# Altium integrated library Integrated_Library1.IntLib: 48 symbols
Pins are listed as number, name and electrical type; pins without a type are passive.

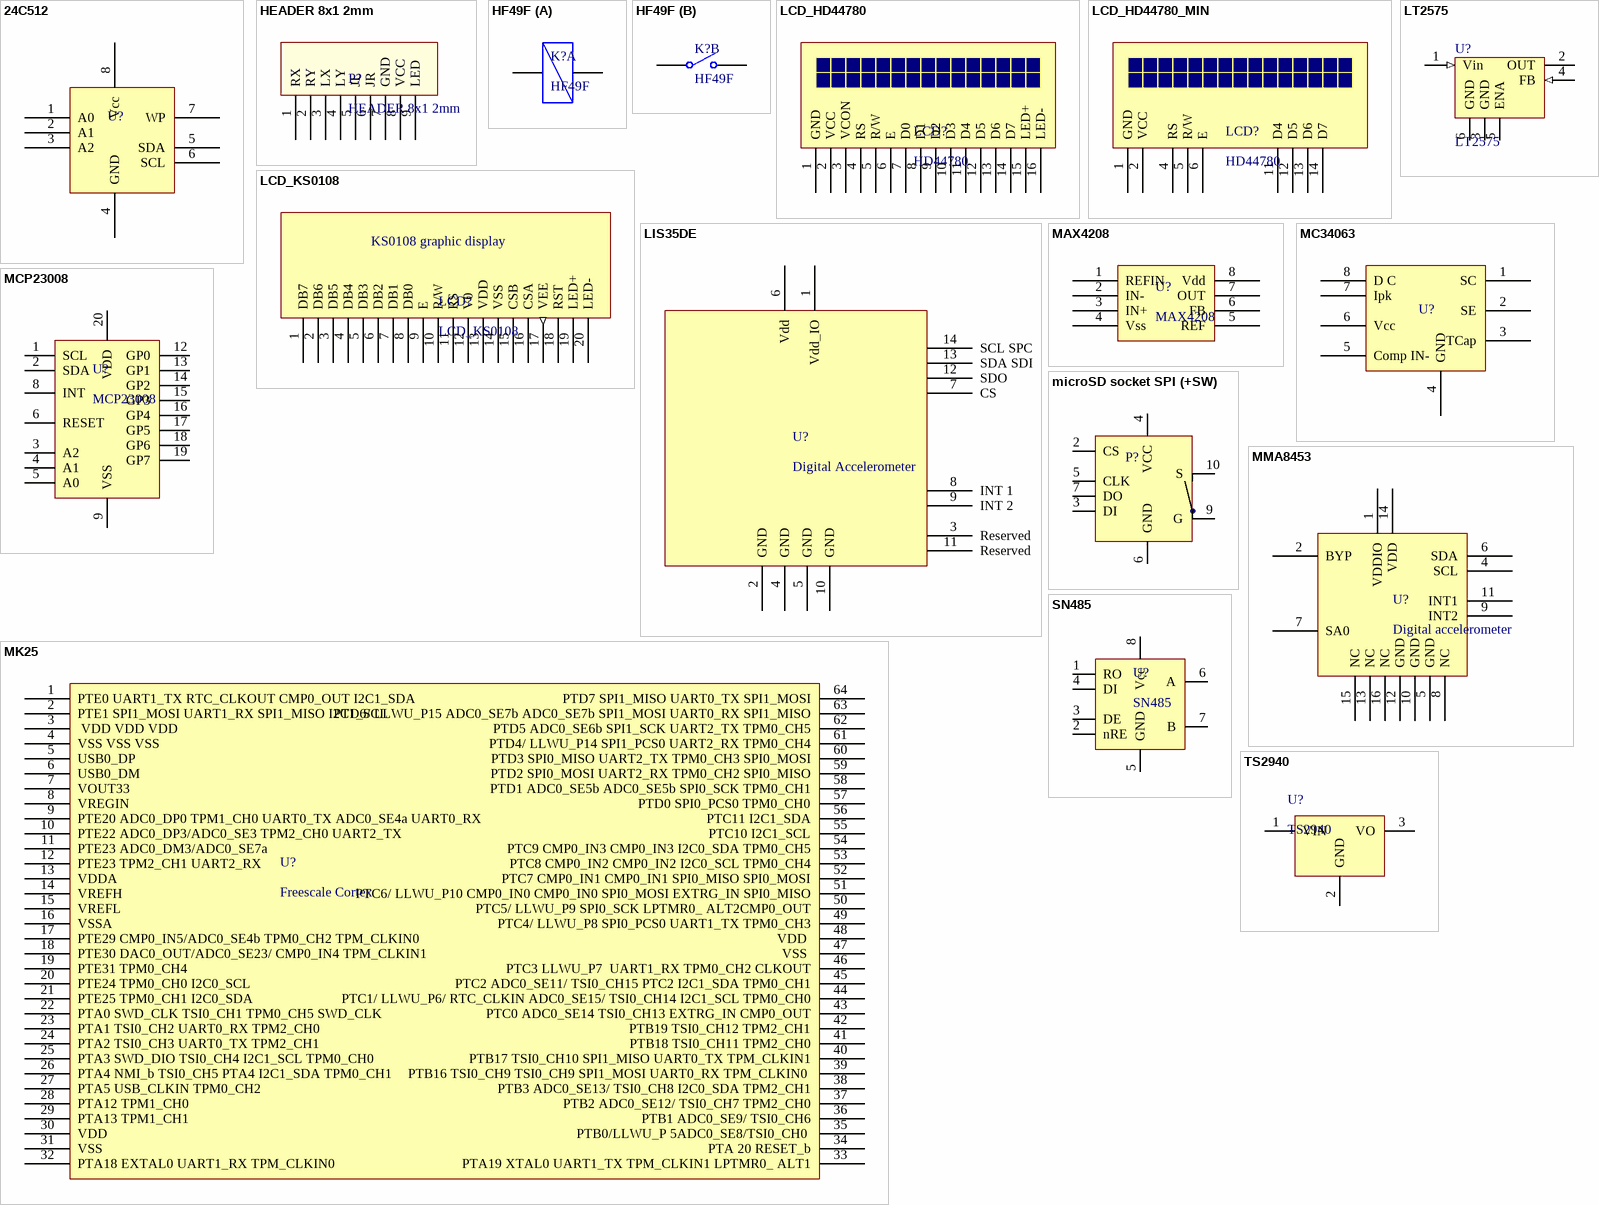
[diagram p0: symbols 24C512 to TS2940]

## 24C512
designator U?
512kb I2C EEPROM
footprint SOIC-8
pins: 1 A0, 2 A1, 3 A2, 4 GND, 5 SDA, 6 SCL, 7 WP, 8 Vcc

## HEADER 8x1 2mm
designator P?
footprint PS2_JOY_PCB
pins: 1 RX, 2 RY, 3 LX, 4 LY, 5 JL, 6 JR, 7 GND, 8 VCC, 9 LED

## HF49F
designator K?
footprint HF49F (MINIATURE 5A/250VAC RElaY)
part A pins: 3, 4
part B pins: 1, 2

## LCD_HD44780
designator LCD?, comment HD44780
footprint LCD_4X20
footprint LCD_2x16
pins: 1 GND, 2 VCC, 3 VCON, 4 RS, 5 R/W, 6 E, 7 D0, 8 D1, 9 D2, 10 D3, 11 D4, 12 D5, 13 D6, 14 D7, 15 LED+, 16 LED-

## LCD_HD44780_MIN
designator LCD?, comment HD44780
footprint LCD_2x8
pins: 1 GND, 2 VCC, 4 RS, 5 R/W, 6 E, 11 D4, 12 D5, 13 D6, 14 D7

## LCD_KS0108
designator LCD?
footprint LCD_GRAPH_192x64
pins: 1 DB7, 2 DB6, 3 DB5, 4 DB4, 5 DB3, 6 DB2, 7 DB1, 8 DB0, 9 E, 10 R/W, 11 RS, 12 V0, 13 VDD, 14 VSS, 15 CSB, 16 CSA, 17 VEE (out), 18 RST, 19 LED+, 20 LED-
text: KS0108 graphic display

## LIS35DE
designator U?, comment Digital Accelerometer
footprint LGA14
pins: 1 Vdd_IO, 2 GND, 3 Reserved, 4 GND, 5 GND, 6 Vdd, 7 CS, 8 INT 1, 9 INT 2, 10 GND, 11 Reserved, 12 SDO, 13 SDA SDI, 14 SCL SPC

## LT2575
designator U?
3-A High-Efficiency Switching Regulator; Note: Case is Pin 5, is GND.; Published: 15-Apr-2002; DatasheetVersion: Oct-1988; PackageVersion: 1989; PackageReference: KJ004; Publisher: Altium Limited; PackageDescription: Oval Flange Mount; 4 Leads; Pin Circle Dia. 11.94 mm; Lead Dia. 1.09 mm (max); ComponentLink1Description: Manufacturer Link; ComponentLink1URL: http://www.ti.com/
footprint TO-263; pin to pad 3>3+6
pins: 1 Vin (in), 2 OUT, 3 GND, 4 FB (in), 5 ENA, 6 GND

## MAX4208
designator U?
Instrumentional amp
footprint TSOP65P490-8AL (TSOP, 8-Leads, Body 3x3mm, Pitch 0.65mm, IPC High Density)
pins: 1 REFIN, 2 IN-, 3 IN+, 4 Vss, 5 REF, 6 FB, 7 OUT, 8 Vdd

## MC34063
designator U?
footprint SOIC-8
pins: 1 SC, 2 SE, 3 TCap, 4 GND, 5 Comp IN-, 6 Vcc, 7 Ipk, 8 D C

## MCP23008
designator U?
Port expander
footprint SSOP-20
pins: 1 SCL, 2 SDA, 3 A2, 4 A1, 5 A0, 6 RESET, 8 INT, 9 VSS, 12 GP0, 13 GP1, 14 GP2, 15 GP3, 16 GP4, 17 GP5, 18 GP6, 19 GP7, 20 VDD

## microSD socket SPI (+SW)
designator P?, comment SD CARD  (value not drawn)
footprint microSD (ATTEND  112A-TAAR-R02)
pins: 2 CS, 3 DI, 4 VCC, 5 CLK, 6 GND, 7 DO, 9 G, 10 S

## MK25
designator U?, comment Freescale Cortex
pins: 1 PTE0 UART1_TX RTC_CLKOUT CMP0_OUT I2C1_SDA, 2 PTE1 SPI1_MOSI UART1_RX SPI1_MISO I2C1_SCL, 3  VDD VDD VDD, 4 VSS VSS VSS, 5 USB0_DP, 6 USB0_DM, 7 VOUT33 , 8 VREGIN , 9 PTE20 ADC0_DP0 TPM1_CH0 UART0_TX ADC0_SE4a UART0_RX, 10 PTE22 ADC0_DP3/ADC0_SE3 TPM2_CH0 UART2_TX, 11 PTE23 ADC0_DM3/ADC0_SE7a, 12 PTE23 TPM2_CH1 UART2_RX, 13 VDDA , 14 VREFH , 15 VREFL , 16 VSSA , 17 PTE29 CMP0_IN5/ADC0_SE4b TPM0_CH2 TPM_CLKIN0, 18 PTE30 DAC0_OUT/ADC0_SE23/ CMP0_IN4 TPM_CLKIN1, 19 PTE31 TPM0_CH4, 20 PTE24 TPM0_CH0 I2C0_SCL, 21 PTE25 TPM0_CH1 I2C0_SDA, 22 PTA0 SWD_CLK TSI0_CH1 TPM0_CH5 SWD_CLK, 23 PTA1 TSI0_CH2 UART0_RX TPM2_CH0, 24 PTA2 TSI0_CH3 UART0_TX TPM2_CH1, 25 PTA3 SWD_DIO TSI0_CH4 I2C1_SCL TPM0_CH0, 26 PTA4 NMI_b TSI0_CH5 PTA4 I2C1_SDA TPM0_CH1, 27 PTA5 USB_CLKIN TPM0_CH2, 28 PTA12 TPM1_CH0, 29 PTA13 TPM1_CH1, 30 VDD, 31 VSS, 32 PTA18 EXTAL0 UART1_RX TPM_CLKIN0, 33 PTA19 XTAL0 UART1_TX TPM_CLKIN1 LPTMR0_ ALT1, 34 PTA 20 RESET_b, 35 PTB0/LLWU_P 5ADC0_SE8/TSI0_CH0 , 36 PTB1 ADC0_SE9/ TSI0_CH6, 37 PTB2 ADC0_SE12/ TSI0_CH7 TPM2_CH0, 38 PTB3 ADC0_SE13/ TSI0_CH8 I2C0_SDA TPM2_CH1, 39 PTB16 TSI0_CH9 TSI0_CH9 SPI1_MOSI UART0_RX TPM_CLKIN0 , 40 PTB17 TSI0_CH10 SPI1_MISO UART0_TX TPM_CLKIN1, 41 PTB18 TSI0_CH11 TPM2_CH0, 42 PTB19 TSI0_CH12 TPM2_CH1, 43 PTC0 ADC0_SE14 TSI0_CH13 EXTRG_IN CMP0_OUT, 44 PTC1/ LLWU_P6/ RTC_CLKIN ADC0_SE15/ TSI0_CH14 I2C1_SCL TPM0_CH0, 45 PTC2 ADC0_SE11/ TSI0_CH15 PTC2 I2C1_SDA TPM0_CH1, 46 PTC3 LLWU_P7  UART1_RX TPM0_CH2 CLKOUT, 47 VSS , 48 VDD , 49 PTC4/ LLWU_P8 SPI0_PCS0 UART1_TX TPM0_CH3, 50 PTC5/ LLWU_P9 SPI0_SCK LPTMR0_ ALT2CMP0_OUT, 51 PTC6/ LLWU_P10 CMP0_IN0 CMP0_IN0 SPI0_MOSI EXTRG_IN SPI0_MISO, 52 PTC7 CMP0_IN1 CMP0_IN1 SPI0_MISO SPI0_MOSI, 53 PTC8 CMP0_IN2 CMP0_IN2 I2C0_SCL TPM0_CH4, 54 PTC9 CMP0_IN3 CMP0_IN3 I2C0_SDA TPM0_CH5, 55 PTC10 I2C1_SCL, 56 PTC11 I2C1_SDA, 57 PTD0 SPI0_PCS0 TPM0_CH0, 58 PTD1 ADC0_SE5b ADC0_SE5b SPI0_SCK TPM0_CH1, 59 PTD2 SPI0_MOSI UART2_RX TPM0_CH2 SPI0_MISO, 60 PTD3 SPI0_MISO UART2_TX TPM0_CH3 SPI0_MOSI, 61 PTD4/ LLWU_P14 SPI1_PCS0 UART2_RX TPM0_CH4, 62 PTD5 ADC0_SE6b SPI1_SCK UART2_TX TPM0_CH5, 63 PTD6/ LLWU_P15 ADC0_SE7b ADC0_SE7b SPI1_MOSI UART0_RX SPI1_MISO, 64 PTD7 SPI1_MISO UART0_TX SPI1_MOSI

## MMA8453
designator U?, comment Digital accelerometer
pins: 1 VDDIO, 2 BYP, 4 SCL, 5 GND, 6 SDA, 7 SA0, 8 NC, 9 INT2, 10 GND, 11 INT1, 12 GND, 13 NC, 14 VDD, 15 NC, 16 NC

## SN485
designator U?
footprint SOIC-8
pins: 1 RO, 2 nRE, 3 DE, 4 DI, 5 GND, 6 A, 7 B, 8 Vcc

## TS2940
designator U?
Line voltage regulator; Published: 29-Jan-2009; DatasheetVersion: revB, Feb-2008; PackageVersion: revAW, Oct-2008; PackageReference: SOT-23A-CB3; Publisher: Altium Limited; PackageDescription: 3-Lead Plastic Small Outline Transistor (CB) [SOT-23A]; ComponentLink1Description: Manufacturer Link; ComponentLink1URL: http://www.microchip.com; ComponentLink2Description: Datasheet; ComponentLink2URL: http://ww1.microchip.com/downloads/en/DeviceDoc/22049b.pdf; ComponentLink3Description: Packaging Specification; ComponentLink3URL: http://ww1.microchip.com/downloads/en/PackagingSpec/00049AW.pdf
footprint DDPAK-EB3_L (D2-PAK, 4-Leads, Body 9x10.2mm, Pitch 2.54mm, Lead Span 14.9mm, IPC High Density)
footprint TO-252
pins: 1 VIN (power), 2 GND (power), 3 VO (power)


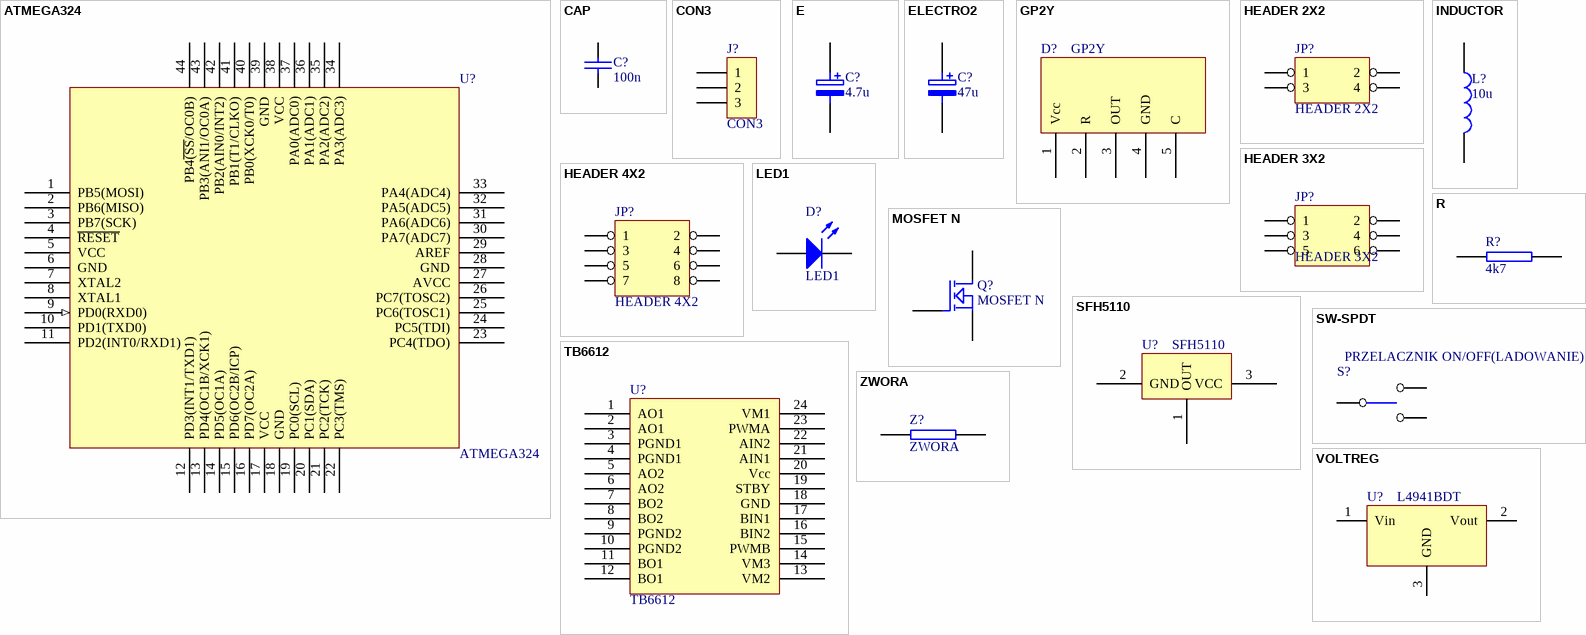
[diagram p1: symbols ATMEGA324 to ZWORA]

## ATMEGA324
designator U?
footprint TQFP44
pins: 1 PB5(MOSI), 2 PB6(MISO), 3 PB7(SCK), 4 ~{RESET}, 5 VCC, 6 GND, 7 XTAL2, 8 XTAL1, 9 PD0(RXD0) (in), 10 PD1(TXD0) (power), 11 PD2(INT0/RXD1) (power), 12 PD3(INT1/TXD1), 13 PD4(OC1B/XCK1), 14 PD5(OC1A), 15 PD6(OC2B/ICP), 16 PD7(OC2A), 17 VCC, 18 GND, 19 PC0(SCL), 20 PC1(SDA), 21 PC2(TCK), 22 PC3(TMS), 23 PC4(TDO), 24 PC5(TDI), 25 PC6(TOSC1), 26 PC7(TOSC2), 27 AVCC, 28 GND, 29 AREF, 30 PA7(ADC7), 31 PA6(ADC6), 32 PA5(ADC5), 33 PA4(ADC4), 34 PA3(ADC3), 35 PA2(ADC2), 36 PA1(ADC1), 37 PA0(ADC0), 38 VCC, 39 GND, 40 PB0(XCK0/T0), 41 PB1(T1/CLKO), 42 PB2(AIN0/INT2), 43 PB3(ANI1/OC0A), 44 PB4~{(SS}/OC0B)

## CAP
designator C?, comment 100n
Capacitor
footprint 0805
footprint 0603
footprint RAD0.2
footprint 1005BO
footprint 0805 CAP
pins: 1, 2

## CON3
designator J?
Connector
footprint SIP3 SMD (Footprint not found)
footprint SIP3 1.5MM
pins: 1, 2, 3

## E
designator C?, comment 4.7u
footprint TYEH F
footprint TANTAL_A
footprint TYEH F
footprint TANTAL1UF
footprint 0603
pins: 1, 2

## ELECTRO2
designator C?, comment 47u
Electrolytic Capacitor
footprint TANTAL_C
footprint RB.2/.4
footprint TANTAL10UF
footprint TYEH F
pins: 1, 2

## GP2Y
designator D?
footprint gp2y smd
pins: 1 Vcc, 2 R, 3 OUT, 4 GND, 5 C

## HEADER 2X2
designator JP?
footprint MM2X2 SMD
pins: 1, 2, 3, 4

## HEADER 3X2
designator JP?
footprint MM3X2 SMD
pins: 1, 2, 3, 4, 5, 6

## HEADER 4X2
designator JP?
footprint SIP2X4 SMD
footprint MM4X2 SMD
pins: 1, 2, 3, 4, 5, 6, 7, 8

## INDUCTOR
designator L?, comment 10u
footprint 0805 IND
footprint 0603
footprint 1206 IND
pins: 1, 2

## LED1
designator D?
Typical RED GaAs LED; Published: 8-Jun-2000; LatestRevisionDate: 08-Jul-2005; LatestRevisionNote: Mech Layer 1 removed.; PackageReference: LED-1; Publisher: Altium Limited; PackageDescription: LED; 2 Leads
footprint LED-1 (LED; 2 Leads)
simulation model LED1 (Diode)
footprint Maritex_LED_angular
pins: 1 K, 2 A

## MOSFET N
designator Q?
pins: 1 G, 2 S, 3 D
2 alternate drawings of the same symbol

## R
designator R?, comment 4k7
footprint 0805
footprint 1206
footprint AXIAL0.3
footprint 0603
footprint 0805 RES
pins: 1, 2

## SFH5110
designator U?
footprint TSOP77338TT
pins: 1 OUT, 2 GND, 3 VCC

## SW-SPDT
designator S?, comment PRZELACZNIK ON/OFF(LADOWANIE)
footprint SLIDE SPDT
pins: 1, 2, 3

## TB6612
designator U?
footprint SSOP24
pins: 1 AO1, 2 AO1, 3 PGND1, 4 PGND1, 5 AO2, 6 AO2, 7 BO2, 8 BO2, 9 PGND2, 10 PGND2, 11 BO1, 12 BO1, 13 VM2, 14 VM3, 15 PWMB, 16 BIN2, 17 BIN1, 18 GND, 19 STBY, 20 Vcc, 21 AIN1, 22 AIN2, 23 PWMA, 24 VM1

## VOLTREG
designator U?, comment L4941BDT
footprint D2PAK
footprint TO-220
footprint TO-252
pins: 1 Vin, 2 Vout, 3 GND

## ZWORA
designator Z?
footprint 0805
footprint 1206
footprint 1005BO
footprint 0603
pins: 1, 2


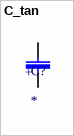
[diagram p2: symbol C_tan]

## C_tan
designator C?
footprint TC7343-2917 (Capacitor, SM Tantalum; Body 7.3 x 4.3 mm (LxW typ))
footprint TC7343-2917 (Capacitor, SM Tantalum; Body 7.3 x 4.3 mm (LxW typ))
footprint SUPERCAP
footprint PCBComponent_1
pins: 1, 2
text: +


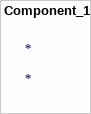
[diagram p3: symbol Component_1]

## Component_1
designator *


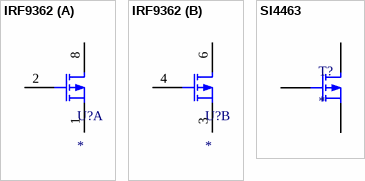
[diagram p4: symbols IRF9362 to SI4463]

## IRF9362
designator U?
footprint IRF9362
part A pins: 1 S1, 2 G1, 8 D1
part B pins: 3 S2, 4 G2, 6 D2

## SI4463
designator T?
footprint SI4463
pins: 1 D, 2 G, 3 S


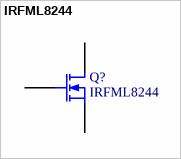
[diagram p5: symbol IRFML8244]

## IRFML8244
designator Q?
N-Channel MOSFET; Published: 8-Jun-2000; LatestRevisionDate: 17-Jul-2002; LatestRevisionNote: Re-released for DXP Platform.; PackageVersion: 1995/1996; PackageReference: E3; Publisher: Altium Limited; PackageDescription: TO, Flat Index; 3 In-Line, Axial Leads; Body Dia. 4.6mm; Lead Dia. 0.5 mm (max)
simulation model NMOS (MOSFET-N)
footprint SOT-23 - FET
pins: D, G, S


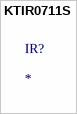
[diagram p6: symbol KTIR0711S]

## KTIR0711S
designator IR?
footprint KTIR0711S
1 alternate drawing of the same symbol


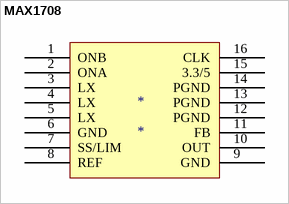
[diagram p7: symbol MAX1708]

## MAX1708
designator *
footprint QSOP16
pins: 1 ONB, 2 ONA, 3 LX, 4 LX, 5 LX, 6 GND, 7 SS/LIM, 8 REF, 9 GND, 10 OUT, 11 FB, 12 PGND, 13 PGND, 14 PGND, 15 3.3/5, 16 CLK


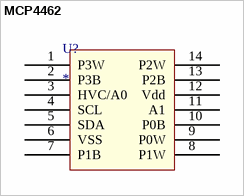
[diagram p8: symbol MCP4462]

## MCP4462
designator U?
footprint MCP4462
pins: 1 P3W, 2 P3B, 3 HVC/A0, 4 SCL, 5 SDA, 6 VSS, 7 P1B, 8 P1W, 9 P0W, 10 P0B, 11 A1, 12 Vdd, 13 P2B, 14 P2W


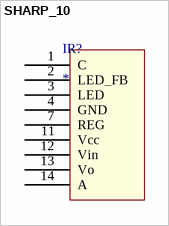
[diagram p9: symbol SHARP_10]

## SHARP_10
designator IR?
footprint sharp_10
pins: 1 C, 2 LED_FB, 3 LED, 4 GND, 7 REG, 11 Vcc, 12 Vin, 13 Vo, 14 A


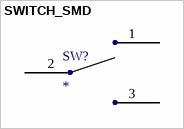
[diagram p10: symbol SWITCH_SMD]

## SWITCH_SMD
designator SW?
footprint Switch_SMD
footprint Switch_SMD
footprint SWITCH_THT
pins: 1, 2, 3


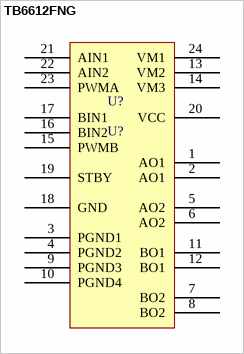
[diagram p11: symbol TB6612FNG]

## TB6612FNG
designator U?, comment U?
footprint TB6612
pins: 1 AO1, 2 AO1, 3 PGND1, 4 PGND2, 5 AO2, 6 AO2, 7 BO2, 8 BO2, 9 PGND3, 10 PGND4, 11 BO1, 12 BO1, 13 VM2, 14 VM3, 15 PWMB, 16 BIN2, 17 BIN1, 18 GND, 19 STBY, 20 VCC, 21 AIN1, 22 AIN2, 23 PWMA, 24 VM1


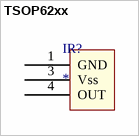
[diagram p12: symbol TSOP62xx]

## TSOP62xx
designator IR?
footprint TSOP62xx
pins: 1 GND, 3 Vss, 4 OUT


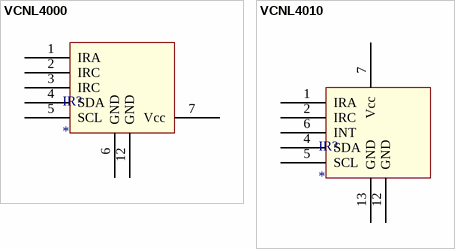
[diagram p13: symbols VCNL4000 to VCNL4010]

## VCNL4000
designator IR?
footprint VCNL4000
pins: 1 IRA, 2 IRC, 3 IRC, 4 SDA, 5 SCL, 6 GND, 7 Vcc, 12 GND

## VCNL4010
designator IR?
footprint VCNL4010
pins: 1 IRA, 2 IRC, 4 SDA, 5 SCL, 6 INT, 7 Vcc, 12 GND, 13 GND